# EAGLE library part M310 (library dec-r)
Tapped Delay Line
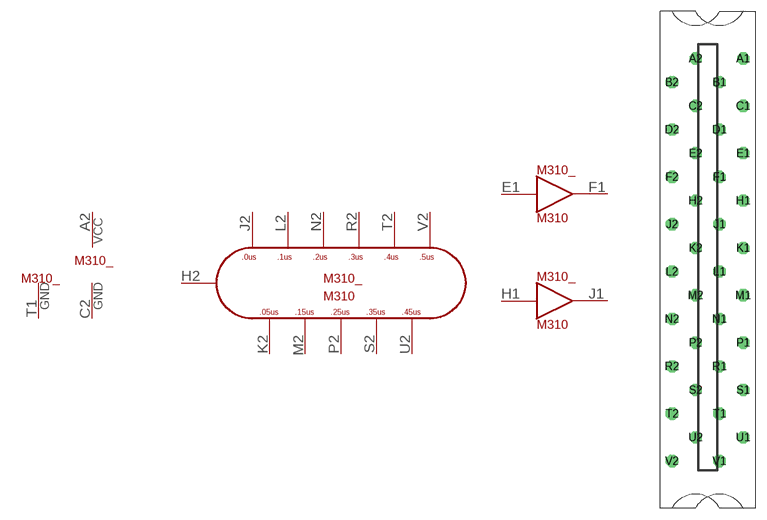
[diagram p38: symbol with the pads of H807; footprint H807]

Designator prefix M310_; gates H2=M310 G$2=POWER G$3=T1GND F1=BUFFER J1=BUFFER

## M310  [H807]
A2  G$2:VCC  pwr
C2  G$2:GND  pwr
E1  F1:IN  in
F1  F1:OUT  out
H1  J1:IN  in
H2  H2:H2  in
J1  J1:OUT  out
J2  H2:J2  out
K2  H2:K2  out
L2  H2:L2  out
M2  H2:M2  out
N2  H2:N2  out
P2  H2:P2  out
R2  H2:R2  out
S2  H2:S2  out
T1  G$3:GND  pwr
T2  H2:T2  out
U2  H2:U2  out
V2  H2:V2  out

## Footprint H807 (pad centres in mm)
One-wide female edge connector
drill 1.092 octagon: A1 4.763,28.575; A2 -1.587,28.575; B1 1.587,25.4; B2 -4.763,25.4; C1 4.763,22.225; C2 -1.587,22.225; D1 1.587,19.05; D2 -4.763,19.05; E1 4.763,15.875; E2 -1.587,15.875; F1 1.587,12.7; F2 -4.763,12.7; H1 4.763,9.525; H2 -1.587,9.525; J1 1.587,6.35; J2 -4.763,6.35; K1 4.763,3.175; K2 -1.587,3.175; L1 1.587,0; L2 -4.763,0; M1 4.763,-3.175; M2 -1.587,-3.175; N1 1.587,-6.35; N2 -4.763,-6.35; P1 4.763,-9.525; P2 -1.587,-9.525; R1 1.587,-12.7; R2 -4.763,-12.7; S1 4.763,-15.875; S2 -1.587,-15.875; T1 1.587,-19.05; T2 -4.763,-19.05; U1 4.763,-22.225; U2 -1.587,-22.225; V1 1.587,-25.4; V2 -4.763,-25.4